# Altium footprint library RF_connectors.PcbLib: 3 footprints
Each footprint in its own frame and in the unit in brackets; x right, y up, seen from the top. Pads: shape width x height; smd on the part's side, far side on the other; paste and mask are expansions set on the pad; w line width, h text height; cw(c..) or ccw(c..) is an arc to the next point about the centre after c.
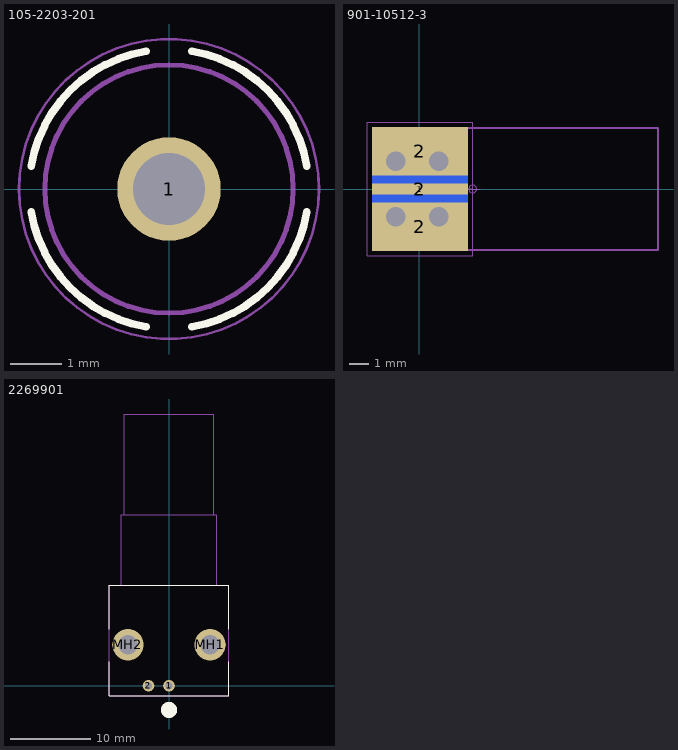
[diagram p0: the footprints below, top view; thin cyan lines are the x and y axes]

## 105-2203-201 [mm] "Vertical Test Jack Insulated Formed Contact, For Standard Tip Plug 2.00Dia, Color - black"
height 8
pads (1):
  round 2 hole 1.4: 1(0,0)
Top Overlay:
  lines w0.15: -2.663,-0.444 ccw(c0,0) -0.444,-2.663 ; -2.663,0.444 cw(c0,0) -0.444,2.663 ; 0.444,-2.663 ccw(c0,0) 2.663,-0.444 ; 0.444,2.663 cw(c0,0) 2.663,0.444
Top Assembly:
  circle w0.1: c0,0 r2.4
  text ".Designator" at -4.998,-0.333 h1
Top Courtyard:
  circle w0.05: c0,0 r2.9
  circle w0.05: c0,0 r0.25
  lines w0.05: -0.35,0 0.35,0 ; 0,-0.35 0,0.35
3D body "105-2203-201_black.STEP": height 7.95, standoff -3.18, extent -2.388,-2.388 2.388,2.388

## 901-10512-3 [mm] "Amphenol RF"
pads (4):
  rect 4.924x0.56 smd: 1(0.038,0)
  rect 4.924x2.5 smd paste+0: 2(0.038,-1.935) 2(0.038,1.935)
  rect 4.924x6.37 smd far side paste+0: 2(0.038,0)
via -1.21,-1.435 diameter 1.5 hole 1
via 1,-1.435 diameter 1.5 hole 1
via 1,1.435 diameter 1.5 hole 1
via -1.21,1.435 diameter 1.5 hole 1
Top Solder:
  rectangle: -2.69,-3.285 2.75,3.285
Bottom Solder:
  rectangle: -2.69,-3.285 2.75,3.285
Top Assembly:
  lines w0.1: -1.8,-3.131 -1.8,3.131 12.28,3.131 12.28,-3.131 -1.8,-3.131
  text ".Designator" at -4.96,-0.333 h1
Top Courtyard:
  circle w0.05: c2.75,0 r0.2
  lines w0.05: 2.35,0 2.75,0 3.15,0 ; -2.674,-3.435 2.75,-3.435 2.75,3.435 -2.674,3.435 -2.674,-3.435
3D body "901-10512-3.stp": height 3.28, standoff -2.91, extent -1.8,-3.131 12.28,3.131

## 2269901 [mm]
pads (4):
  round 1.446 hole 0.89: 1(0,0) 2(-2.54,0)
  round 3.9 hole 2.384: MH1(5.08,5.08) MH2(-5.08,5.08)
Top Overlay:
  circle w1: c0,-3 r0.5
  lines w0.15: -7.38,3 -7.38,-1.25 7.38,-1.25 7.38,3 ; -7.38,7 -7.38,12.45 7.38,12.45 7.38,7
Top Assembly:
  lines w0.1: -7.38,-1.25 7.38,-1.25 7.38,12.45 -7.38,12.45 -7.38,-1.25 ; -5.9,12.45 5.9,12.45 5.9,21.21 -5.9,21.21 -5.9,12.45 ; -5.535,21.21 5.535,21.21 5.535,33.66 -5.535,33.66 -5.535,21.21
  text ".Designator" at -4.998,-0.333 h1
3D body "226990-1.stp": height 15.88, standoff -4.11, extent -7.379,-1.9 7.379,33.66